# Altium schematic symbol library TNY.SchLib: 223 symbols (part 2 of 2)
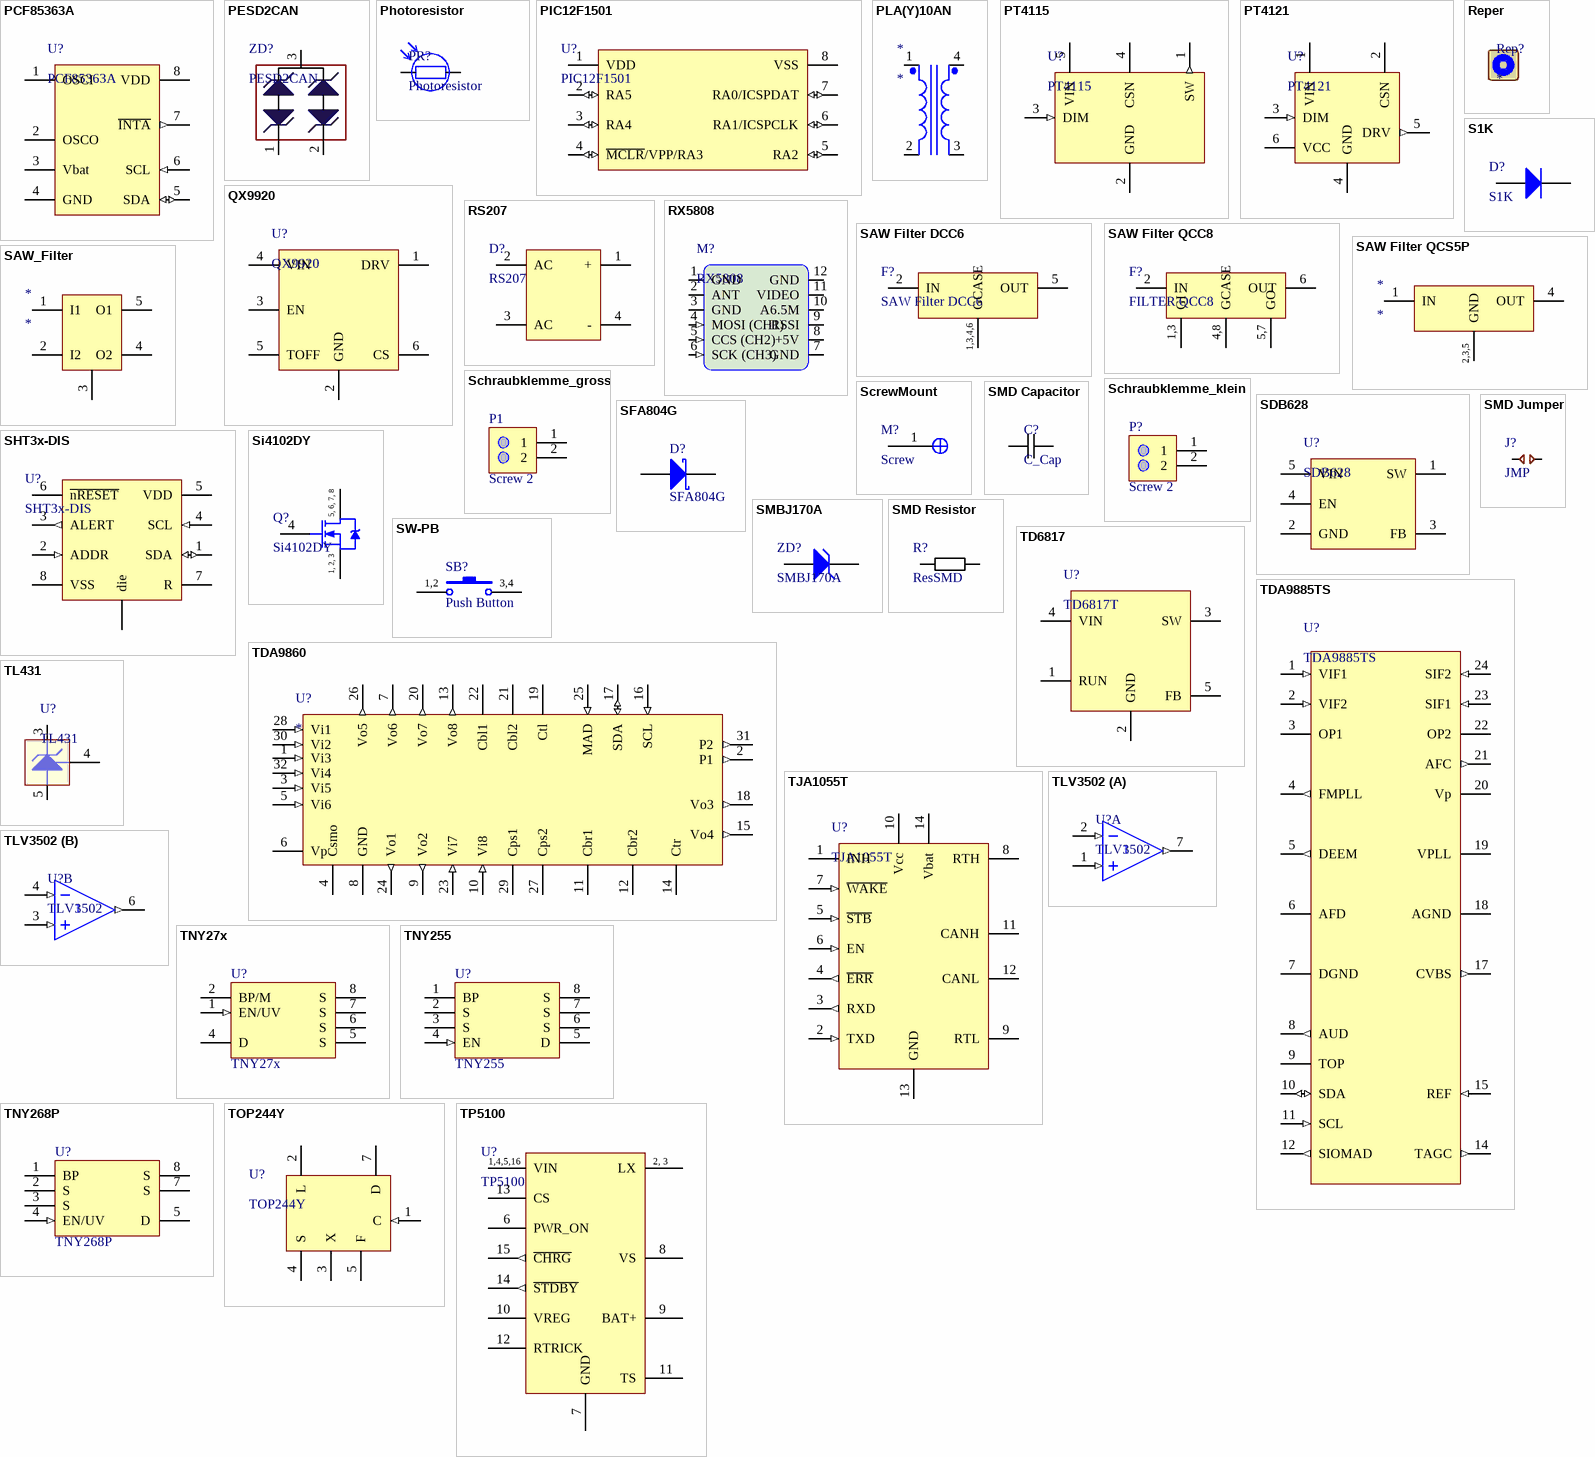
[diagram p8: symbols PCF85363A to TP5100]

## TNY27x
designator U?
Published: 8-Jun-2000; LatestRevisionDate: 17-Jul-2002; LatestRevisionNote: Re-released for DXP Platform.; PackageReference: SMB; Publisher: Altium Limited; Code_JEDEC: DO-214-AA
footprint SMD-8C
pins: 1 EN/UV (in), 2 BP/M (power), 4 D (oc), 5 S (power), 6 S (power), 7 S (power), 8 S (power)

## TNY255
designator U?
footprint DIP-8 (DIP; 8 Leads; Row Spacing 7.62 mm; Pitch 2.54 mm)
pins: 1 BP (power), 2 S (power), 3 S (power), 4 EN (in), 5 D (oc), 6 S (power), 7 S (power), 8 S (power)

## TNY268P
designator U?
footprint DIP8(7)
footprint SMD-8(7)B
pins: 1 BP (power), 2 S (power), 3 S (power), 4 EN/UV (in), 5 D (oc), 7 S (power), 8 S (power)

## TOP244Y
designator U?
footprint TO-220-7C
pins: 1 C (in), 2 L, 3 X, 4 S (power), 5 F, 7 D (oc)

## TP5100
designator U?
2A-switch buck 8.4V / 4.2V rechargeable lithium battery chip; Package: QFN16
footprint LFCSP CP-16-23-L
pins: 1 VIN (power), 2 LX, 3 LX, 4 VIN (power), 5 VIN (power), 6 PWR_ON, 7 GND (power), 8 VS, 9 BAT+, 10 VREG, 11 TS, 12 RTRICK, 13 CS, 14 ~{STDBY} (out), 15 ~{CHRG} (out), 16 VIN (power)
text: 1,4,5,16; 2, 3

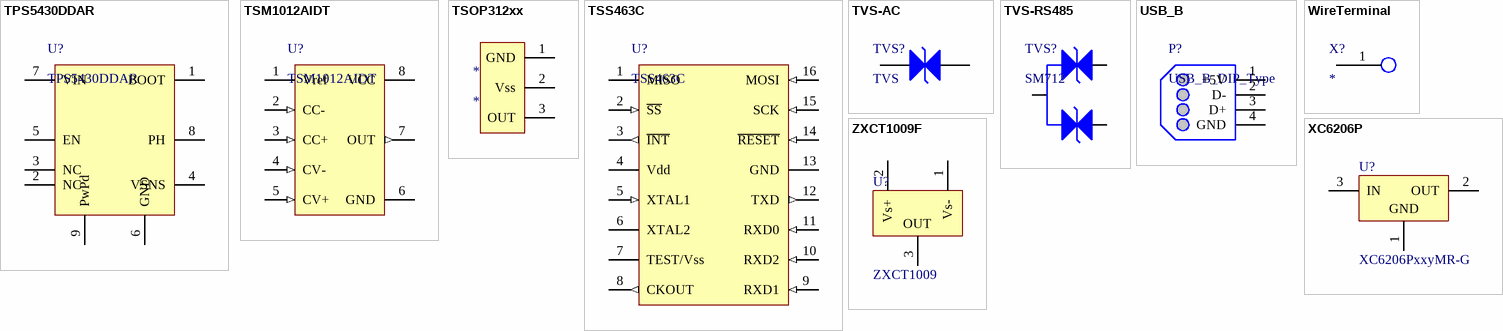
[diagram p7: symbols TPS5430DDAR to ZXCT1009F]

## TPS5430DDAR
designator U?
3-A, Wide Input Range, Step-Down Converter; Manufacturer: Texas Instruments Incorporated; Package: SO-8
footprint SOIC127P600-8-EPAD
pins: 1 BOOT, 2 NC, 3 NC, 4 VSNS, 5 EN, 6 GND (power), 7 VIN (power), 8 PH, 9 PwPd

## TSM1012AIDT
designator U?
Low consumption voltage and current controller for battery chargers and adapters
footprint SOIC127P600-8
pins: 1 Vref, 2 CC- (in), 3 CC+ (in), 4 CV- (in), 5 CV+ (in), 6 GND (power), 7 OUT (out), 8 VCC (power)

## TSOP312xx
designator *
footprint TSOP312xx
pins: 1 GND (power), 2 Vss (power), 3 OUT (oc)

## TSS463C
designator U?
VAN Data Link / Controller with Serial Interface
footprint SOIC127P1030-16
pins: 1 MISO (hiz), 2 ~{SS} (in), 3 ~{INT} (out), 4 Vdd (power), 5 XTAL1 (in), 6 XTAL2, 7 TEST/Vss (power), 8 CKOUT (out), 9 RXD1 (in), 10 RXD2 (in), 11 RXD0 (in), 12 TXD (out), 13 GND (power), 14 ~{RESET} (in), 15 SCK (in), 16 MOSI (in)

## TVS-AC
designator TVS?, comment TVS
footprint SMA_DO214 (DO-214-AC/SMA; 2 C-Bend Leads; Body 5.3 x 2.6 mm)
footprint SMB_DO214 (DO-214-AA/SMB; 2 C-Bend Leads; Body 5.3 x 3.6 mm)
footprint SMC_DO214 (DO-214-AB/SMC; 2 C-Bend Leads; Body 7.9 x 5.9 mm)
footprint DO-201_
pins: 1 A1, 2 A2

## TVS-RS485
designator TVS?, comment SM712
footprint SOT23_
pins: 1 A2, 2 A2, 3 A1

## USB_B
designator P?, comment USB_B_DIP_Type
footprint USB_B_DIP_Type
pins: 0 GND hidden, 1 +5V (power), 2 D-, 3 D+, 4 GND

## WireTerminal
designator X?
footprint FreeWire 0.75 (Wire 0.75 mm connection terminal)
pins: 1

## XC6206P
designator U?, comment XC6206PxxyMR-G
Low power consumption, 3 terminal, positive voltage regulator; Manufacturer: Torex Semi; ManufacturerPartNumber: XC6206PxxyMR-G; Package: SOT-23; Power/Voltage: *
footprint SOT23_
pins: 1 GND (power), 2 OUT (power), 3 IN (power)

## ZXCT1009F
designator U?, comment ZXCT1009
Low cost, accurate high side current sense monitor in SOT-23; Manufacturer: Diodes Inc.; Manufacturer Part Number: ZXCT1009F-7; Package: SOT-23
footprint SOT23_
pins: 1 Vs- (power), 2 Vs+ (power), 3 OUT (power)